# EAGLE library part INA240A3PW (library ruark2)
–4-V to 80-V, Bidirectional, Ultra-Precise Current Sense Amplifier With Enhanced PWM Rejection
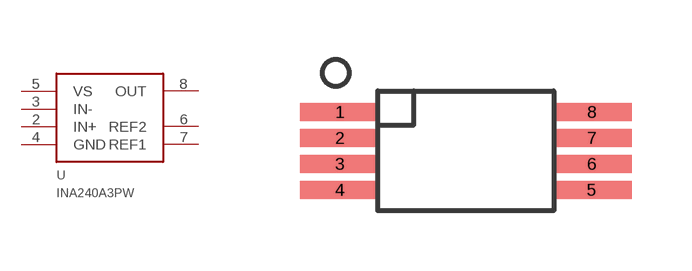
[diagram p180: symbol with the pads of TSSOP8; footprint TSSOP8]

Designator prefix U

## INA240A3PW  [TSSOP8]
2  IN+
3  IN-
4  GND
5  VS
6  REF2
7  REF1
8  OUT

## Footprint TSSOP8 (pad centres in mm)
smd 2 x 0.45: 1 -3.15,0.975; 2 -3.15,0.325; 3 -3.15,-0.325; 4 -3.15,-0.975; 5 3.15,-0.975; 6 3.15,-0.325; 7 3.15,0.325; 8 3.15,0.975